# Altium schematic symbol library 3D_MIG_Controller.SCHLIB: 528 symbols (part 4 of 6)
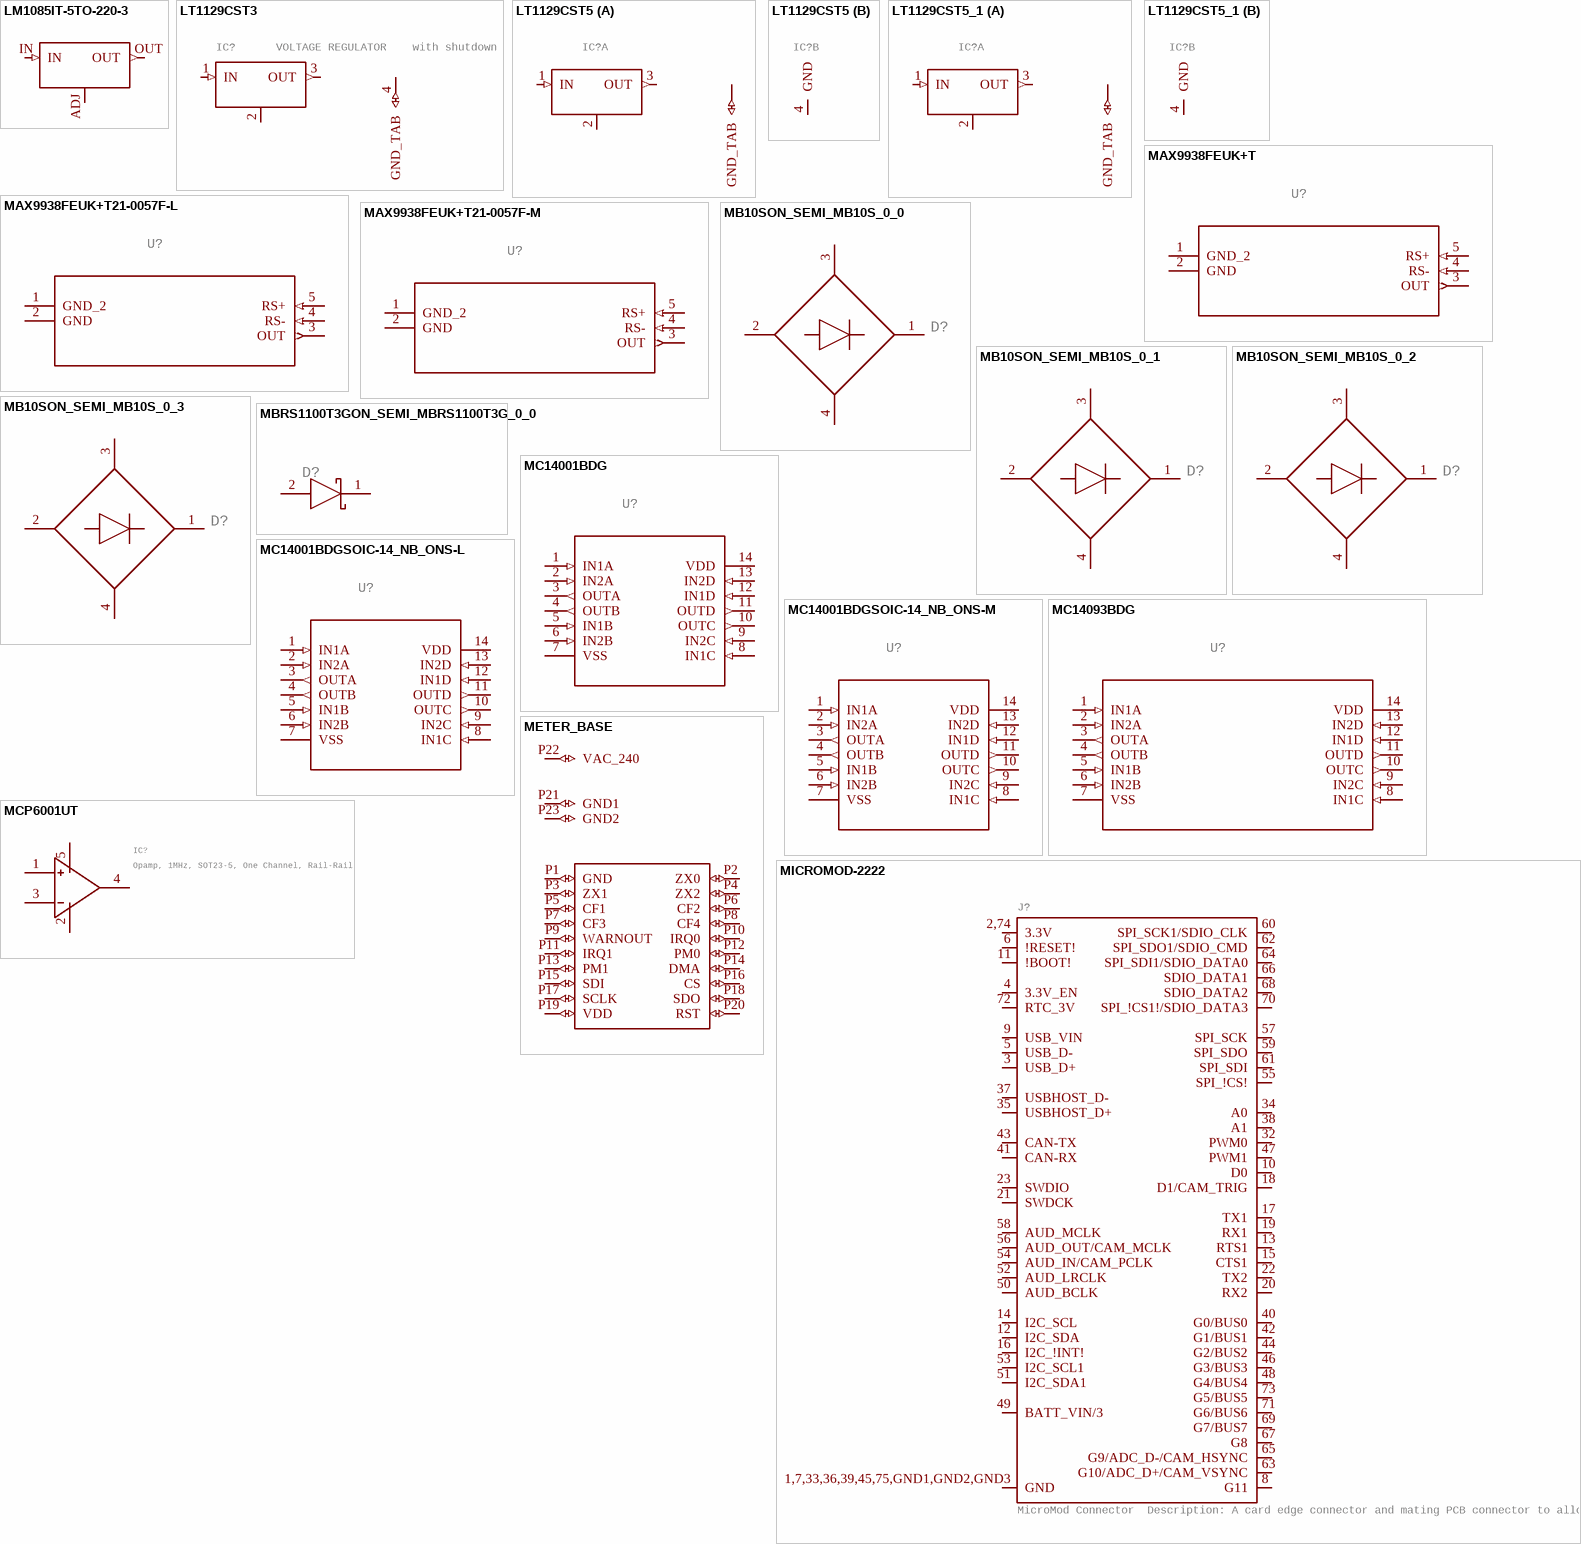
[diagram p35: symbols LM1085IT-5TO-220-3 to MICROMOD-2222]

## MB10SON_SEMI_MB10S_0_0
designator D?, comment Bridge Rectifier Single Phase Standard 1kV Surface Mount 4-SOIC  (value not drawn)
GateName_1: G$0; SymbolName_1: ON_SEMI_MB10S_0_0; DeviceSetName: MB10S; CAPACITANCE: 13pF; CENTROID_NOT_SPECIFIED: No; DEVICE_CLASS_L1: Discrete Semiconductors; DEVICE_CLASS_L2: Diodes; DEVICE_CLASS_L3: Rectifier Diodes; FORWARD_CURRENT: 0.8A; LEAD_FREE: Yes; MAX_JUNCTION_TEMP: +150°C; MAX_REPETITIVE_REVERSE_VOLTAGE: 1000V; MAX_SURGE_FORWARD_CURRENT: 35A; MF: ON Semi; MFG_PACKAGE_IDENT: 751EP; MFG_PACKAGE_IDENT_COMPONENT_ID: f1ce8039da724604; MFG_PACKAGE_IDENT_REV: O; PEAK_REVERSE_CURRENT: 5uA; PREFIX: D; STANDOFF_HEIGHT: 0.05mm; TEMPERATURE_RANGE_LOW: -55°C; VERIFICATION_VERSION: 0.0.0.3; DeviceName: ON_SEMI_MB10S_0_0; LibraryName: 3D_MIG_Controller; Package: ON_SEMI_MB10S_0; AUTOMOTIVE: No; DATASHEET: https://www.onsemi.com/pub/Collateral/MB10S-D.PDF; DIGIKEY_DESCRIPTION: BRIDGE RECT 1P 1KV 500MA 4SOIC; DIGIKEY_PART_NUMBER: MB10SCT-ND; FOOTPRINT_PARAMETERS_1: {"fp_type":"SOIC_wide","params":{"N":{"nom":4,"long name":"Number of leads","min":null,"max":null,"short name":"N","type":"count"},"A":{"nom":false,"long name":"Height","min":2400000,"max":2900000,"short name":"A","type":"measurement"},"A1":{"nom":false,"long name":"Package clearance","min":50000,"max":200000,"short name":"A1","type":"measurement"},"A2":{"nom":false,"long name":"Package height","min":2200000,"max":2700000,"short name":"A2","type":"measurement"},"D":{"nom":false,"long name":"Package length","min":4500000,"max":4950000,"short name":"D","type":"measurement"},"E":{"nom":false,"long name":"Width w/ leads","min":6400000,"max":7000000,"short name":"E","type":"measurement"},"E1":{"nom":false,"long name":"Package width","min":3600000,"max":4200000,"short name":"E1","type":"measurement"},"B":{"nom":false,"long name":"Lead width","min":430000,"max":840000,"short name":"B","type":"measurement"},"C":{"nom":false,"long name":"Lead thickness","min":150000,"max":410000,"short name":"C","type":"measurement"},"e":{"nom":2540000,"long name":"Lead pitch","min":null,"max":null,"short name":"e","type":"measurement"},"L":{"nom":false,"long name":"Lead foot length","min":480000,"max":1100000,"short name":"L","type":"measurement"},"PHI":{"nom":false,"long name":"Lead foot angle","min":0,"max":8000000,"short name":"PHI","type":"measurement"},"HT":{"default":"No","long name":"Thermal pad","type":"multichoiceparent","short name":"HT","children":[]},"offset x":{"nom":0,"long name":"X Center offset","min":null,"max":null,"short name":"offset x","type":"measurement"},"offset y":{"nom":0,"long name":"Y Center offset","min":null,"max":null,"short name":"offset y","type":"measurement"},"LS":{"default":"Rounded rectangle","long name":"Land shape","type":"multichoice","short name":"LS"},"LS1":{"default":"Rectangle","long name":"Land shape (Pin 1)","type":"multichoice","short name":"LS1"},"solder toe":{"nom":550000,"long name":"Solder fillet (toe)","min":null,"max":null,"short name":"solder toe","type":"fixedmeasurement"},"solder heel":{"nom":450000,"long name":"Solder fillet (heel)","min":null,"max":null,"short name":"solder heel","type":"fixedmeasurement"},"solder side":{"nom":50000,"long name":"Solder fillet (side)","min":null,"max":null,"short name":"solder side","type":"fixedmeasurement"},"courtyard":{"nom":500000,"long name":"Courtyard","min":null,"max":null,"short name":"courtyard","type":"fixedmeasurement"},"SF":{"default":"A","long name":"Packing level","type":"multichoiceparent","short name":"SF","help":"http://support.upverter.com/customer/portal/articles/978783-what-is-a-footprint-packing-level","children":["solder toe","solder heel","solder side","courtyard"]}}}; FOOTPRINT_PARAMETERS_2: {"fp_type":"SOIC_wide","params":{"N":{"nom":4,"long name":"Number of leads","min":null,"max":null,"short name":"N","type":"count"},"A":{"nom":false,"long name":"Height","min":2400000,"max":2900000,"short name":"A","type":"measurement"},"A1":{"nom":false,"long name":"Package clearance","min":50000,"max":200000,"short name":"A1","type":"measurement"},"A2":{"nom":false,"long name":"Package height","min":2200000,"max":2700000,"short name":"A2","type":"measurement"},"D":{"nom":false,"long name":"Package length","min":4500000,"max":4950000,"short name":"D","type":"measurement"},"E":{"nom":false,"long name":"Width w/ leads","min":6400000,"max":7000000,"short name":"E","type":"measurement"},"E1":{"nom":false,"long name":"Package width","min":3600000,"max":4200000,"short name":"E1","type":"measurement"},"B":{"nom":false,"long name":"Lead width","min":430000,"max":840000,"short name":"B","type":"measurement"},"C":{"nom":false,"long name":"Lead thickness","min":150000,"max":410000,"short name":"C","type":"measurement"},"e":{"nom":2540000,"long name":"Lead pitch","min":null,"max":null,"short name":"e","type":"measurement"},"L":{"nom":false,"long name":"Lead foot length","min":480000,"max":1100000,"short name":"L","type":"measurement"},"PHI":{"nom":false,"long name":"Lead foot angle","min":0,"max":8000000,"short name":"PHI","type":"measurement"},"HT":{"default":"No","long name":"Thermal pad","type":"multichoiceparent","short name":"HT","children":[]},"offset x":{"nom":0,"long name":"X Center offset","min":null,"max":null,"short name":"offset x","type":"measurement"},"offset y":{"nom":0,"long name":"Y Center offset","min":null,"max":null,"short name":"offset y","type":"measurement"},"LS":{"default":"Rounded rectangle","long name":"Land shape","type":"multichoice","short name":"LS"},"LS1":{"default":"Rectangle","long name":"Land shape (Pin 1)","type":"multichoice","short name":"LS1"},"solder toe":{"nom":350000,"long name":"Solder fillet (toe)","min":null,"max":null,"short name":"solder toe","type":"fixedmeasurement"},"solder heel":{"nom":350000,"long name":"Solder fillet (heel)","min":null,"max":null,"short name":"solder heel","type":"fixedmeasurement"},"solder side":{"nom":30000,"long name":"Solder fillet (side)","min":null,"max":null,"short name":"solder side","type":"fixedmeasurement"},"courtyard":{"nom":250000,"long name":"Courtyard","min":null,"max":null,"short name":"courtyard","type":"fixedmeasurement"},"SF":{"default":"B","long name":"Packing level","type":"multichoiceparent","short name":"SF","help":"http://support.upverter.com/customer/portal/articles/978783-what-is-a-footprint-packing-level","children":["solder toe","solder heel","solder side","courtyard"]}}}; FOOTPRINT_PARAMETERS_3: {"fp_type":"SOIC_wide","params":{"N":{"nom":4,"long name":"Number of leads","min":null,"max":null,"short name":"N","type":"count"},"A":{"nom":false,"long name":"Height","min":2400000,"max":2900000,"short name":"A","type":"measurement"},"A1":{"nom":false,"long name":"Package clearance","min":50000,"max":200000,"short name":"A1","type":"measurement"},"A2":{"nom":false,"long name":"Package height","min":2200000,"max":2700000,"short name":"A2","type":"measurement"},"D":{"nom":false,"long name":"Package length","min":4500000,"max":4950000,"short name":"D","type":"measurement"},"E":{"nom":false,"long name":"Width w/ leads","min":6400000,"max":7000000,"short name":"E","type":"measurement"},"E1":{"nom":false,"long name":"Package width","min":3600000,"max":4200000,"short name":"E1","type":"measurement"},"B":{"nom":false,"long name":"Lead width","min":430000,"max":840000,"short name":"B","type":"measurement"},"C":{"nom":false,"long name":"Lead thickness","min":150000,"max":410000,"short name":"C","type":"measurement"},"e":{"nom":2540000,"long name":"Lead pitch","min":null,"max":null,"short name":"e","type":"measurement"},"L":{"nom":false,"long name":"Lead foot length","min":480000,"max":1100000,"short name":"L","type":"measurement"},"PHI":{"nom":false,"long name":"Lead foot angle","min":0,"max":8000000,"short name":"PHI","type":"measurement"},"HT":{"default":"No","long name":"Thermal pad","type":"multichoiceparent","short name":"HT","children":[]},"offset x":{"nom":0,"long name":"X Center offset","min":null,"max":null,"short name":"offset x","type":"measurement"},"offset y":{"nom":0,"long name":"Y Center offset","min":null,"max":null,"short name":"offset y","type":"measurement"},"LS":{"default":"Rounded rectangle","long name":"Land shape","type":"multichoice","short name":"LS"},"LS1":{"default":"Rectangle","long name":"Land shape (Pin 1)","type":"multichoice","short name":"LS1"},"solder toe":{"nom":150000,"long name":"Solder fillet (toe)","min":null,"max":null,"short name":"solder toe","type":"fixedmeasurement"},"solder heel":{"nom":250000,"long name":"Solder fillet (heel)","min":null,"max":null,"short name":"solder heel","type":"fixedmeasurement"},"solder side":{"nom":10000,"long name":"Solder fillet (side)","min":null,"max":null,"short name":"solder side","type":"fixedmeasurement"},"courtyard":{"nom":100000,"long name":"Courtyard","min":null,"max":null,"short name":"courtyard","type":"fixedmeasurement"},"SF":{"default":"C","long name":"Packing level","type":"multichoiceparent","short name":"SF","help":"http://support.upverter.com/customer/portal/articles/978783-what-is-a-footprint-packing-level","children":["solder toe","solder heel","solder side","courtyard"]}}}; FOOTPRINT_URL: https://www.onsemi.com/pub/Collateral/751EP.PDF; FOOTPRINT_VARIANT_NAME_0: Recommended_Land_Pattern; FOOTPRINT_VARIANT_NAME_1: IPC_A; FOOTPRINT_VARIANT_NAME_2: IPC_B; FOOTPRINT_VARIANT_NAME_3: IPC_C; HEIGHT: 2.9mm; MFG_PACKAGE_IDENT_DATE: 09/2016; MOUSER_PART_NUMBER: 512-MB10S; MPN: MB10S; PACKAGE: SOIC4; REVERSE_VOLTAGE: 1000V; ROHS: Yes; TEMPERATURE_RANGE_HIGH: +150°C
footprint ON_SEMI_MB10S_0
pins: 1 +, 2 -, 3 1_~, 4 2_~

## MB10SON_SEMI_MB10S_0_1
designator D?, comment Bridge Rectifier Single Phase Standard 1kV Surface Mount 4-SOIC  (value not drawn)
GateName_1: G$0; SymbolName_1: ON_SEMI_MB10S_0_0; DeviceName: ON_SEMI_MB10S_0_1; DeviceSetName: MB10S; CAPACITANCE: 13pF; CENTROID_NOT_SPECIFIED: No; DEVICE_CLASS_L1: Discrete Semiconductors; DEVICE_CLASS_L2: Diodes; DEVICE_CLASS_L3: Rectifier Diodes; FORWARD_CURRENT: 0.8A; LEAD_FREE: Yes; MAX_JUNCTION_TEMP: +150°C; MAX_REPETITIVE_REVERSE_VOLTAGE: 1000V; MAX_SURGE_FORWARD_CURRENT: 35A; MF: ON Semi; MFG_PACKAGE_IDENT: 751EP; MFG_PACKAGE_IDENT_COMPONENT_ID: f1ce8039da724604; MFG_PACKAGE_IDENT_REV: O; PEAK_REVERSE_CURRENT: 5uA; PREFIX: D; STANDOFF_HEIGHT: 0.05mm; TEMPERATURE_RANGE_LOW: -55°C; VERIFICATION_VERSION: 0.0.0.3; LibraryName: 3D_MIG_Controller; Package: ON_SEMI_MB10S_1; AUTOMOTIVE: No; DATASHEET: https://www.onsemi.com/pub/Collateral/MB10S-D.PDF; DIGIKEY_DESCRIPTION: BRIDGE RECT 1P 1KV 500MA 4SOIC; DIGIKEY_PART_NUMBER: MB10SCT-ND; FOOTPRINT_PARAMETERS_1: {"fp_type":"SOIC_wide","params":{"N":{"nom":4,"long name":"Number of leads","min":null,"max":null,"short name":"N","type":"count"},"A":{"nom":false,"long name":"Height","min":2400000,"max":2900000,"short name":"A","type":"measurement"},"A1":{"nom":false,"long name":"Package clearance","min":50000,"max":200000,"short name":"A1","type":"measurement"},"A2":{"nom":false,"long name":"Package height","min":2200000,"max":2700000,"short name":"A2","type":"measurement"},"D":{"nom":false,"long name":"Package length","min":4500000,"max":4950000,"short name":"D","type":"measurement"},"E":{"nom":false,"long name":"Width w/ leads","min":6400000,"max":7000000,"short name":"E","type":"measurement"},"E1":{"nom":false,"long name":"Package width","min":3600000,"max":4200000,"short name":"E1","type":"measurement"},"B":{"nom":false,"long name":"Lead width","min":430000,"max":840000,"short name":"B","type":"measurement"},"C":{"nom":false,"long name":"Lead thickness","min":150000,"max":410000,"short name":"C","type":"measurement"},"e":{"nom":2540000,"long name":"Lead pitch","min":null,"max":null,"short name":"e","type":"measurement"},"L":{"nom":false,"long name":"Lead foot length","min":480000,"max":1100000,"short name":"L","type":"measurement"},"PHI":{"nom":false,"long name":"Lead foot angle","min":0,"max":8000000,"short name":"PHI","type":"measurement"},"HT":{"default":"No","long name":"Thermal pad","type":"multichoiceparent","short name":"HT","children":[]},"offset x":{"nom":0,"long name":"X Center offset","min":null,"max":null,"short name":"offset x","type":"measurement"},"offset y":{"nom":0,"long name":"Y Center offset","min":null,"max":null,"short name":"offset y","type":"measurement"},"LS":{"default":"Rounded rectangle","long name":"Land shape","type":"multichoice","short name":"LS"},"LS1":{"default":"Rectangle","long name":"Land shape (Pin 1)","type":"multichoice","short name":"LS1"},"solder toe":{"nom":550000,"long name":"Solder fillet (toe)","min":null,"max":null,"short name":"solder toe","type":"fixedmeasurement"},"solder heel":{"nom":450000,"long name":"Solder fillet (heel)","min":null,"max":null,"short name":"solder heel","type":"fixedmeasurement"},"solder side":{"nom":50000,"long name":"Solder fillet (side)","min":null,"max":null,"short name":"solder side","type":"fixedmeasurement"},"courtyard":{"nom":500000,"long name":"Courtyard","min":null,"max":null,"short name":"courtyard","type":"fixedmeasurement"},"SF":{"default":"A","long name":"Packing level","type":"multichoiceparent","short name":"SF","help":"http://support.upverter.com/customer/portal/articles/978783-what-is-a-footprint-packing-level","children":["solder toe","solder heel","solder side","courtyard"]}}}; FOOTPRINT_PARAMETERS_2: {"fp_type":"SOIC_wide","params":{"N":{"nom":4,"long name":"Number of leads","min":null,"max":null,"short name":"N","type":"count"},"A":{"nom":false,"long name":"Height","min":2400000,"max":2900000,"short name":"A","type":"measurement"},"A1":{"nom":false,"long name":"Package clearance","min":50000,"max":200000,"short name":"A1","type":"measurement"},"A2":{"nom":false,"long name":"Package height","min":2200000,"max":2700000,"short name":"A2","type":"measurement"},"D":{"nom":false,"long name":"Package length","min":4500000,"max":4950000,"short name":"D","type":"measurement"},"E":{"nom":false,"long name":"Width w/ leads","min":6400000,"max":7000000,"short name":"E","type":"measurement"},"E1":{"nom":false,"long name":"Package width","min":3600000,"max":4200000,"short name":"E1","type":"measurement"},"B":{"nom":false,"long name":"Lead width","min":430000,"max":840000,"short name":"B","type":"measurement"},"C":{"nom":false,"long name":"Lead thickness","min":150000,"max":410000,"short name":"C","type":"measurement"},"e":{"nom":2540000,"long name":"Lead pitch","min":null,"max":null,"short name":"e","type":"measurement"},"L":{"nom":false,"long name":"Lead foot length","min":480000,"max":1100000,"short name":"L","type":"measurement"},"PHI":{"nom":false,"long name":"Lead foot angle","min":0,"max":8000000,"short name":"PHI","type":"measurement"},"HT":{"default":"No","long name":"Thermal pad","type":"multichoiceparent","short name":"HT","children":[]},"offset x":{"nom":0,"long name":"X Center offset","min":null,"max":null,"short name":"offset x","type":"measurement"},"offset y":{"nom":0,"long name":"Y Center offset","min":null,"max":null,"short name":"offset y","type":"measurement"},"LS":{"default":"Rounded rectangle","long name":"Land shape","type":"multichoice","short name":"LS"},"LS1":{"default":"Rectangle","long name":"Land shape (Pin 1)","type":"multichoice","short name":"LS1"},"solder toe":{"nom":350000,"long name":"Solder fillet (toe)","min":null,"max":null,"short name":"solder toe","type":"fixedmeasurement"},"solder heel":{"nom":350000,"long name":"Solder fillet (heel)","min":null,"max":null,"short name":"solder heel","type":"fixedmeasurement"},"solder side":{"nom":30000,"long name":"Solder fillet (side)","min":null,"max":null,"short name":"solder side","type":"fixedmeasurement"},"courtyard":{"nom":250000,"long name":"Courtyard","min":null,"max":null,"short name":"courtyard","type":"fixedmeasurement"},"SF":{"default":"B","long name":"Packing level","type":"multichoiceparent","short name":"SF","help":"http://support.upverter.com/customer/portal/articles/978783-what-is-a-footprint-packing-level","children":["solder toe","solder heel","solder side","courtyard"]}}}; FOOTPRINT_PARAMETERS_3: {"fp_type":"SOIC_wide","params":{"N":{"nom":4,"long name":"Number of leads","min":null,"max":null,"short name":"N","type":"count"},"A":{"nom":false,"long name":"Height","min":2400000,"max":2900000,"short name":"A","type":"measurement"},"A1":{"nom":false,"long name":"Package clearance","min":50000,"max":200000,"short name":"A1","type":"measurement"},"A2":{"nom":false,"long name":"Package height","min":2200000,"max":2700000,"short name":"A2","type":"measurement"},"D":{"nom":false,"long name":"Package length","min":4500000,"max":4950000,"short name":"D","type":"measurement"},"E":{"nom":false,"long name":"Width w/ leads","min":6400000,"max":7000000,"short name":"E","type":"measurement"},"E1":{"nom":false,"long name":"Package width","min":3600000,"max":4200000,"short name":"E1","type":"measurement"},"B":{"nom":false,"long name":"Lead width","min":430000,"max":840000,"short name":"B","type":"measurement"},"C":{"nom":false,"long name":"Lead thickness","min":150000,"max":410000,"short name":"C","type":"measurement"},"e":{"nom":2540000,"long name":"Lead pitch","min":null,"max":null,"short name":"e","type":"measurement"},"L":{"nom":false,"long name":"Lead foot length","min":480000,"max":1100000,"short name":"L","type":"measurement"},"PHI":{"nom":false,"long name":"Lead foot angle","min":0,"max":8000000,"short name":"PHI","type":"measurement"},"HT":{"default":"No","long name":"Thermal pad","type":"multichoiceparent","short name":"HT","children":[]},"offset x":{"nom":0,"long name":"X Center offset","min":null,"max":null,"short name":"offset x","type":"measurement"},"offset y":{"nom":0,"long name":"Y Center offset","min":null,"max":null,"short name":"offset y","type":"measurement"},"LS":{"default":"Rounded rectangle","long name":"Land shape","type":"multichoice","short name":"LS"},"LS1":{"default":"Rectangle","long name":"Land shape (Pin 1)","type":"multichoice","short name":"LS1"},"solder toe":{"nom":150000,"long name":"Solder fillet (toe)","min":null,"max":null,"short name":"solder toe","type":"fixedmeasurement"},"solder heel":{"nom":250000,"long name":"Solder fillet (heel)","min":null,"max":null,"short name":"solder heel","type":"fixedmeasurement"},"solder side":{"nom":10000,"long name":"Solder fillet (side)","min":null,"max":null,"short name":"solder side","type":"fixedmeasurement"},"courtyard":{"nom":100000,"long name":"Courtyard","min":null,"max":null,"short name":"courtyard","type":"fixedmeasurement"},"SF":{"default":"C","long name":"Packing level","type":"multichoiceparent","short name":"SF","help":"http://support.upverter.com/customer/portal/articles/978783-what-is-a-footprint-packing-level","children":["solder toe","solder heel","solder side","courtyard"]}}}; FOOTPRINT_URL: https://www.onsemi.com/pub/Collateral/751EP.PDF; FOOTPRINT_VARIANT_NAME_0: Recommended_Land_Pattern; FOOTPRINT_VARIANT_NAME_1: IPC_A; FOOTPRINT_VARIANT_NAME_2: IPC_B; FOOTPRINT_VARIANT_NAME_3: IPC_C; HEIGHT: 2.9mm; MFG_PACKAGE_IDENT_DATE: 09/2016; MOUSER_PART_NUMBER: 512-MB10S; MPN: MB10S; PACKAGE: SOIC4; REVERSE_VOLTAGE: 1000V; ROHS: Yes; TEMPERATURE_RANGE_HIGH: +150°C
footprint ON_SEMI_MB10S_1
pins: 1 +, 2 -, 3 1_~, 4 2_~

## MB10SON_SEMI_MB10S_0_2
designator D?, comment Bridge Rectifier Single Phase Standard 1kV Surface Mount 4-SOIC  (value not drawn)
GateName_1: G$0; SymbolName_1: ON_SEMI_MB10S_0_0; DeviceName: ON_SEMI_MB10S_0_2; DeviceSetName: MB10S; CAPACITANCE: 13pF; CENTROID_NOT_SPECIFIED: No; DEVICE_CLASS_L1: Discrete Semiconductors; DEVICE_CLASS_L2: Diodes; DEVICE_CLASS_L3: Rectifier Diodes; FORWARD_CURRENT: 0.8A; LEAD_FREE: Yes; MAX_JUNCTION_TEMP: +150°C; MAX_REPETITIVE_REVERSE_VOLTAGE: 1000V; MAX_SURGE_FORWARD_CURRENT: 35A; MF: ON Semi; MFG_PACKAGE_IDENT: 751EP; MFG_PACKAGE_IDENT_COMPONENT_ID: f1ce8039da724604; MFG_PACKAGE_IDENT_REV: O; PEAK_REVERSE_CURRENT: 5uA; PREFIX: D; STANDOFF_HEIGHT: 0.05mm; TEMPERATURE_RANGE_LOW: -55°C; VERIFICATION_VERSION: 0.0.0.3; LibraryName: 3D_MIG_Controller; Package: ON_SEMI_MB10S_2; AUTOMOTIVE: No; DATASHEET: https://www.onsemi.com/pub/Collateral/MB10S-D.PDF; DIGIKEY_DESCRIPTION: BRIDGE RECT 1P 1KV 500MA 4SOIC; DIGIKEY_PART_NUMBER: MB10SCT-ND; FOOTPRINT_PARAMETERS_1: {"fp_type":"SOIC_wide","params":{"N":{"nom":4,"long name":"Number of leads","min":null,"max":null,"short name":"N","type":"count"},"A":{"nom":false,"long name":"Height","min":2400000,"max":2900000,"short name":"A","type":"measurement"},"A1":{"nom":false,"long name":"Package clearance","min":50000,"max":200000,"short name":"A1","type":"measurement"},"A2":{"nom":false,"long name":"Package height","min":2200000,"max":2700000,"short name":"A2","type":"measurement"},"D":{"nom":false,"long name":"Package length","min":4500000,"max":4950000,"short name":"D","type":"measurement"},"E":{"nom":false,"long name":"Width w/ leads","min":6400000,"max":7000000,"short name":"E","type":"measurement"},"E1":{"nom":false,"long name":"Package width","min":3600000,"max":4200000,"short name":"E1","type":"measurement"},"B":{"nom":false,"long name":"Lead width","min":430000,"max":840000,"short name":"B","type":"measurement"},"C":{"nom":false,"long name":"Lead thickness","min":150000,"max":410000,"short name":"C","type":"measurement"},"e":{"nom":2540000,"long name":"Lead pitch","min":null,"max":null,"short name":"e","type":"measurement"},"L":{"nom":false,"long name":"Lead foot length","min":480000,"max":1100000,"short name":"L","type":"measurement"},"PHI":{"nom":false,"long name":"Lead foot angle","min":0,"max":8000000,"short name":"PHI","type":"measurement"},"HT":{"default":"No","long name":"Thermal pad","type":"multichoiceparent","short name":"HT","children":[]},"offset x":{"nom":0,"long name":"X Center offset","min":null,"max":null,"short name":"offset x","type":"measurement"},"offset y":{"nom":0,"long name":"Y Center offset","min":null,"max":null,"short name":"offset y","type":"measurement"},"LS":{"default":"Rounded rectangle","long name":"Land shape","type":"multichoice","short name":"LS"},"LS1":{"default":"Rectangle","long name":"Land shape (Pin 1)","type":"multichoice","short name":"LS1"},"solder toe":{"nom":550000,"long name":"Solder fillet (toe)","min":null,"max":null,"short name":"solder toe","type":"fixedmeasurement"},"solder heel":{"nom":450000,"long name":"Solder fillet (heel)","min":null,"max":null,"short name":"solder heel","type":"fixedmeasurement"},"solder side":{"nom":50000,"long name":"Solder fillet (side)","min":null,"max":null,"short name":"solder side","type":"fixedmeasurement"},"courtyard":{"nom":500000,"long name":"Courtyard","min":null,"max":null,"short name":"courtyard","type":"fixedmeasurement"},"SF":{"default":"A","long name":"Packing level","type":"multichoiceparent","short name":"SF","help":"http://support.upverter.com/customer/portal/articles/978783-what-is-a-footprint-packing-level","children":["solder toe","solder heel","solder side","courtyard"]}}}; FOOTPRINT_PARAMETERS_2: {"fp_type":"SOIC_wide","params":{"N":{"nom":4,"long name":"Number of leads","min":null,"max":null,"short name":"N","type":"count"},"A":{"nom":false,"long name":"Height","min":2400000,"max":2900000,"short name":"A","type":"measurement"},"A1":{"nom":false,"long name":"Package clearance","min":50000,"max":200000,"short name":"A1","type":"measurement"},"A2":{"nom":false,"long name":"Package height","min":2200000,"max":2700000,"short name":"A2","type":"measurement"},"D":{"nom":false,"long name":"Package length","min":4500000,"max":4950000,"short name":"D","type":"measurement"},"E":{"nom":false,"long name":"Width w/ leads","min":6400000,"max":7000000,"short name":"E","type":"measurement"},"E1":{"nom":false,"long name":"Package width","min":3600000,"max":4200000,"short name":"E1","type":"measurement"},"B":{"nom":false,"long name":"Lead width","min":430000,"max":840000,"short name":"B","type":"measurement"},"C":{"nom":false,"long name":"Lead thickness","min":150000,"max":410000,"short name":"C","type":"measurement"},"e":{"nom":2540000,"long name":"Lead pitch","min":null,"max":null,"short name":"e","type":"measurement"},"L":{"nom":false,"long name":"Lead foot length","min":480000,"max":1100000,"short name":"L","type":"measurement"},"PHI":{"nom":false,"long name":"Lead foot angle","min":0,"max":8000000,"short name":"PHI","type":"measurement"},"HT":{"default":"No","long name":"Thermal pad","type":"multichoiceparent","short name":"HT","children":[]},"offset x":{"nom":0,"long name":"X Center offset","min":null,"max":null,"short name":"offset x","type":"measurement"},"offset y":{"nom":0,"long name":"Y Center offset","min":null,"max":null,"short name":"offset y","type":"measurement"},"LS":{"default":"Rounded rectangle","long name":"Land shape","type":"multichoice","short name":"LS"},"LS1":{"default":"Rectangle","long name":"Land shape (Pin 1)","type":"multichoice","short name":"LS1"},"solder toe":{"nom":350000,"long name":"Solder fillet (toe)","min":null,"max":null,"short name":"solder toe","type":"fixedmeasurement"},"solder heel":{"nom":350000,"long name":"Solder fillet (heel)","min":null,"max":null,"short name":"solder heel","type":"fixedmeasurement"},"solder side":{"nom":30000,"long name":"Solder fillet (side)","min":null,"max":null,"short name":"solder side","type":"fixedmeasurement"},"courtyard":{"nom":250000,"long name":"Courtyard","min":null,"max":null,"short name":"courtyard","type":"fixedmeasurement"},"SF":{"default":"B","long name":"Packing level","type":"multichoiceparent","short name":"SF","help":"http://support.upverter.com/customer/portal/articles/978783-what-is-a-footprint-packing-level","children":["solder toe","solder heel","solder side","courtyard"]}}}; FOOTPRINT_PARAMETERS_3: {"fp_type":"SOIC_wide","params":{"N":{"nom":4,"long name":"Number of leads","min":null,"max":null,"short name":"N","type":"count"},"A":{"nom":false,"long name":"Height","min":2400000,"max":2900000,"short name":"A","type":"measurement"},"A1":{"nom":false,"long name":"Package clearance","min":50000,"max":200000,"short name":"A1","type":"measurement"},"A2":{"nom":false,"long name":"Package height","min":2200000,"max":2700000,"short name":"A2","type":"measurement"},"D":{"nom":false,"long name":"Package length","min":4500000,"max":4950000,"short name":"D","type":"measurement"},"E":{"nom":false,"long name":"Width w/ leads","min":6400000,"max":7000000,"short name":"E","type":"measurement"},"E1":{"nom":false,"long name":"Package width","min":3600000,"max":4200000,"short name":"E1","type":"measurement"},"B":{"nom":false,"long name":"Lead width","min":430000,"max":840000,"short name":"B","type":"measurement"},"C":{"nom":false,"long name":"Lead thickness","min":150000,"max":410000,"short name":"C","type":"measurement"},"e":{"nom":2540000,"long name":"Lead pitch","min":null,"max":null,"short name":"e","type":"measurement"},"L":{"nom":false,"long name":"Lead foot length","min":480000,"max":1100000,"short name":"L","type":"measurement"},"PHI":{"nom":false,"long name":"Lead foot angle","min":0,"max":8000000,"short name":"PHI","type":"measurement"},"HT":{"default":"No","long name":"Thermal pad","type":"multichoiceparent","short name":"HT","children":[]},"offset x":{"nom":0,"long name":"X Center offset","min":null,"max":null,"short name":"offset x","type":"measurement"},"offset y":{"nom":0,"long name":"Y Center offset","min":null,"max":null,"short name":"offset y","type":"measurement"},"LS":{"default":"Rounded rectangle","long name":"Land shape","type":"multichoice","short name":"LS"},"LS1":{"default":"Rectangle","long name":"Land shape (Pin 1)","type":"multichoice","short name":"LS1"},"solder toe":{"nom":150000,"long name":"Solder fillet (toe)","min":null,"max":null,"short name":"solder toe","type":"fixedmeasurement"},"solder heel":{"nom":250000,"long name":"Solder fillet (heel)","min":null,"max":null,"short name":"solder heel","type":"fixedmeasurement"},"solder side":{"nom":10000,"long name":"Solder fillet (side)","min":null,"max":null,"short name":"solder side","type":"fixedmeasurement"},"courtyard":{"nom":100000,"long name":"Courtyard","min":null,"max":null,"short name":"courtyard","type":"fixedmeasurement"},"SF":{"default":"C","long name":"Packing level","type":"multichoiceparent","short name":"SF","help":"http://support.upverter.com/customer/portal/articles/978783-what-is-a-footprint-packing-level","children":["solder toe","solder heel","solder side","courtyard"]}}}; FOOTPRINT_URL: https://www.onsemi.com/pub/Collateral/751EP.PDF; FOOTPRINT_VARIANT_NAME_0: Recommended_Land_Pattern; FOOTPRINT_VARIANT_NAME_1: IPC_A; FOOTPRINT_VARIANT_NAME_2: IPC_B; FOOTPRINT_VARIANT_NAME_3: IPC_C; HEIGHT: 2.9mm; MFG_PACKAGE_IDENT_DATE: 09/2016; MOUSER_PART_NUMBER: 512-MB10S; MPN: MB10S; PACKAGE: SOIC4; REVERSE_VOLTAGE: 1000V; ROHS: Yes; TEMPERATURE_RANGE_HIGH: +150°C
footprint ON_SEMI_MB10S_2
pins: 1 +, 2 -, 3 1_~, 4 2_~

## MB10SON_SEMI_MB10S_0_3
designator D?, comment Bridge Rectifier Single Phase Standard 1kV Surface Mount 4-SOIC  (value not drawn)
GateName_1: G$0; SymbolName_1: ON_SEMI_MB10S_0_0; DeviceName: ON_SEMI_MB10S_0_3; DeviceSetName: MB10S; CAPACITANCE: 13pF; CENTROID_NOT_SPECIFIED: No; DEVICE_CLASS_L1: Discrete Semiconductors; DEVICE_CLASS_L2: Diodes; DEVICE_CLASS_L3: Rectifier Diodes; FORWARD_CURRENT: 0.8A; LEAD_FREE: Yes; MAX_JUNCTION_TEMP: +150°C; MAX_REPETITIVE_REVERSE_VOLTAGE: 1000V; MAX_SURGE_FORWARD_CURRENT: 35A; MF: ON Semi; MFG_PACKAGE_IDENT: 751EP; MFG_PACKAGE_IDENT_COMPONENT_ID: f1ce8039da724604; MFG_PACKAGE_IDENT_REV: O; PEAK_REVERSE_CURRENT: 5uA; PREFIX: D; STANDOFF_HEIGHT: 0.05mm; TEMPERATURE_RANGE_LOW: -55°C; VERIFICATION_VERSION: 0.0.0.3; LibraryName: 3D_MIG_Controller; Package: ON_SEMI_MB10S_3; AUTOMOTIVE: No; DATASHEET: https://www.onsemi.com/pub/Collateral/MB10S-D.PDF; DIGIKEY_DESCRIPTION: BRIDGE RECT 1P 1KV 500MA 4SOIC; DIGIKEY_PART_NUMBER: MB10SCT-ND; FOOTPRINT_PARAMETERS_1: {"fp_type":"SOIC_wide","params":{"N":{"nom":4,"long name":"Number of leads","min":null,"max":null,"short name":"N","type":"count"},"A":{"nom":false,"long name":"Height","min":2400000,"max":2900000,"short name":"A","type":"measurement"},"A1":{"nom":false,"long name":"Package clearance","min":50000,"max":200000,"short name":"A1","type":"measurement"},"A2":{"nom":false,"long name":"Package height","min":2200000,"max":2700000,"short name":"A2","type":"measurement"},"D":{"nom":false,"long name":"Package length","min":4500000,"max":4950000,"short name":"D","type":"measurement"},"E":{"nom":false,"long name":"Width w/ leads","min":6400000,"max":7000000,"short name":"E","type":"measurement"},"E1":{"nom":false,"long name":"Package width","min":3600000,"max":4200000,"short name":"E1","type":"measurement"},"B":{"nom":false,"long name":"Lead width","min":430000,"max":840000,"short name":"B","type":"measurement"},"C":{"nom":false,"long name":"Lead thickness","min":150000,"max":410000,"short name":"C","type":"measurement"},"e":{"nom":2540000,"long name":"Lead pitch","min":null,"max":null,"short name":"e","type":"measurement"},"L":{"nom":false,"long name":"Lead foot length","min":480000,"max":1100000,"short name":"L","type":"measurement"},"PHI":{"nom":false,"long name":"Lead foot angle","min":0,"max":8000000,"short name":"PHI","type":"measurement"},"HT":{"default":"No","long name":"Thermal pad","type":"multichoiceparent","short name":"HT","children":[]},"offset x":{"nom":0,"long name":"X Center offset","min":null,"max":null,"short name":"offset x","type":"measurement"},"offset y":{"nom":0,"long name":"Y Center offset","min":null,"max":null,"short name":"offset y","type":"measurement"},"LS":{"default":"Rounded rectangle","long name":"Land shape","type":"multichoice","short name":"LS"},"LS1":{"default":"Rectangle","long name":"Land shape (Pin 1)","type":"multichoice","short name":"LS1"},"solder toe":{"nom":550000,"long name":"Solder fillet (toe)","min":null,"max":null,"short name":"solder toe","type":"fixedmeasurement"},"solder heel":{"nom":450000,"long name":"Solder fillet (heel)","min":null,"max":null,"short name":"solder heel","type":"fixedmeasurement"},"solder side":{"nom":50000,"long name":"Solder fillet (side)","min":null,"max":null,"short name":"solder side","type":"fixedmeasurement"},"courtyard":{"nom":500000,"long name":"Courtyard","min":null,"max":null,"short name":"courtyard","type":"fixedmeasurement"},"SF":{"default":"A","long name":"Packing level","type":"multichoiceparent","short name":"SF","help":"http://support.upverter.com/customer/portal/articles/978783-what-is-a-footprint-packing-level","children":["solder toe","solder heel","solder side","courtyard"]}}}; FOOTPRINT_PARAMETERS_2: {"fp_type":"SOIC_wide","params":{"N":{"nom":4,"long name":"Number of leads","min":null,"max":null,"short name":"N","type":"count"},"A":{"nom":false,"long name":"Height","min":2400000,"max":2900000,"short name":"A","type":"measurement"},"A1":{"nom":false,"long name":"Package clearance","min":50000,"max":200000,"short name":"A1","type":"measurement"},"A2":{"nom":false,"long name":"Package height","min":2200000,"max":2700000,"short name":"A2","type":"measurement"},"D":{"nom":false,"long name":"Package length","min":4500000,"max":4950000,"short name":"D","type":"measurement"},"E":{"nom":false,"long name":"Width w/ leads","min":6400000,"max":7000000,"short name":"E","type":"measurement"},"E1":{"nom":false,"long name":"Package width","min":3600000,"max":4200000,"short name":"E1","type":"measurement"},"B":{"nom":false,"long name":"Lead width","min":430000,"max":840000,"short name":"B","type":"measurement"},"C":{"nom":false,"long name":"Lead thickness","min":150000,"max":410000,"short name":"C","type":"measurement"},"e":{"nom":2540000,"long name":"Lead pitch","min":null,"max":null,"short name":"e","type":"measurement"},"L":{"nom":false,"long name":"Lead foot length","min":480000,"max":1100000,"short name":"L","type":"measurement"},"PHI":{"nom":false,"long name":"Lead foot angle","min":0,"max":8000000,"short name":"PHI","type":"measurement"},"HT":{"default":"No","long name":"Thermal pad","type":"multichoiceparent","short name":"HT","children":[]},"offset x":{"nom":0,"long name":"X Center offset","min":null,"max":null,"short name":"offset x","type":"measurement"},"offset y":{"nom":0,"long name":"Y Center offset","min":null,"max":null,"short name":"offset y","type":"measurement"},"LS":{"default":"Rounded rectangle","long name":"Land shape","type":"multichoice","short name":"LS"},"LS1":{"default":"Rectangle","long name":"Land shape (Pin 1)","type":"multichoice","short name":"LS1"},"solder toe":{"nom":350000,"long name":"Solder fillet (toe)","min":null,"max":null,"short name":"solder toe","type":"fixedmeasurement"},"solder heel":{"nom":350000,"long name":"Solder fillet (heel)","min":null,"max":null,"short name":"solder heel","type":"fixedmeasurement"},"solder side":{"nom":30000,"long name":"Solder fillet (side)","min":null,"max":null,"short name":"solder side","type":"fixedmeasurement"},"courtyard":{"nom":250000,"long name":"Courtyard","min":null,"max":null,"short name":"courtyard","type":"fixedmeasurement"},"SF":{"default":"B","long name":"Packing level","type":"multichoiceparent","short name":"SF","help":"http://support.upverter.com/customer/portal/articles/978783-what-is-a-footprint-packing-level","children":["solder toe","solder heel","solder side","courtyard"]}}}; FOOTPRINT_PARAMETERS_3: {"fp_type":"SOIC_wide","params":{"N":{"nom":4,"long name":"Number of leads","min":null,"max":null,"short name":"N","type":"count"},"A":{"nom":false,"long name":"Height","min":2400000,"max":2900000,"short name":"A","type":"measurement"},"A1":{"nom":false,"long name":"Package clearance","min":50000,"max":200000,"short name":"A1","type":"measurement"},"A2":{"nom":false,"long name":"Package height","min":2200000,"max":2700000,"short name":"A2","type":"measurement"},"D":{"nom":false,"long name":"Package length","min":4500000,"max":4950000,"short name":"D","type":"measurement"},"E":{"nom":false,"long name":"Width w/ leads","min":6400000,"max":7000000,"short name":"E","type":"measurement"},"E1":{"nom":false,"long name":"Package width","min":3600000,"max":4200000,"short name":"E1","type":"measurement"},"B":{"nom":false,"long name":"Lead width","min":430000,"max":840000,"short name":"B","type":"measurement"},"C":{"nom":false,"long name":"Lead thickness","min":150000,"max":410000,"short name":"C","type":"measurement"},"e":{"nom":2540000,"long name":"Lead pitch","min":null,"max":null,"short name":"e","type":"measurement"},"L":{"nom":false,"long name":"Lead foot length","min":480000,"max":1100000,"short name":"L","type":"measurement"},"PHI":{"nom":false,"long name":"Lead foot angle","min":0,"max":8000000,"short name":"PHI","type":"measurement"},"HT":{"default":"No","long name":"Thermal pad","type":"multichoiceparent","short name":"HT","children":[]},"offset x":{"nom":0,"long name":"X Center offset","min":null,"max":null,"short name":"offset x","type":"measurement"},"offset y":{"nom":0,"long name":"Y Center offset","min":null,"max":null,"short name":"offset y","type":"measurement"},"LS":{"default":"Rounded rectangle","long name":"Land shape","type":"multichoice","short name":"LS"},"LS1":{"default":"Rectangle","long name":"Land shape (Pin 1)","type":"multichoice","short name":"LS1"},"solder toe":{"nom":150000,"long name":"Solder fillet (toe)","min":null,"max":null,"short name":"solder toe","type":"fixedmeasurement"},"solder heel":{"nom":250000,"long name":"Solder fillet (heel)","min":null,"max":null,"short name":"solder heel","type":"fixedmeasurement"},"solder side":{"nom":10000,"long name":"Solder fillet (side)","min":null,"max":null,"short name":"solder side","type":"fixedmeasurement"},"courtyard":{"nom":100000,"long name":"Courtyard","min":null,"max":null,"short name":"courtyard","type":"fixedmeasurement"},"SF":{"default":"C","long name":"Packing level","type":"multichoiceparent","short name":"SF","help":"http://support.upverter.com/customer/portal/articles/978783-what-is-a-footprint-packing-level","children":["solder toe","solder heel","solder side","courtyard"]}}}; FOOTPRINT_URL: https://www.onsemi.com/pub/Collateral/751EP.PDF; FOOTPRINT_VARIANT_NAME_0: Recommended_Land_Pattern; FOOTPRINT_VARIANT_NAME_1: IPC_A; FOOTPRINT_VARIANT_NAME_2: IPC_B; FOOTPRINT_VARIANT_NAME_3: IPC_C; HEIGHT: 2.9mm; MFG_PACKAGE_IDENT_DATE: 09/2016; MOUSER_PART_NUMBER: 512-MB10S; MPN: MB10S; PACKAGE: SOIC4; REVERSE_VOLTAGE: 1000V; ROHS: Yes; TEMPERATURE_RANGE_HIGH: +150°C
footprint ON_SEMI_MB10S_3
pins: 1 +, 2 -, 3 1_~, 4 2_~

## MBRS1100T3GON_SEMI_MBRS1100T3G_0_0
designator D?, comment Diode Schottky 100V 1A Surface Mount  (value not drawn)
3DS_PART_NUMBER: 417-00000; GateName_1: G$0; SymbolName_1: MBRS1100T3G; DeviceName: ON_SEMI_MBRS1100T3G_0_0; CENTROID_NOT_SPECIFIED: No; DEVICE_CLASS_L1: Discrete Semiconductors; DEVICE_CLASS_L2: Diodes; DEVICE_CLASS_L3: Schottky Diodes; FORWARD_CURRENT: 2A; LEAD_FREE: yes; MAX_JUNCTION_TEMP: +175°C; MF: ON Semi; MFG_PACKAGE_IDENT: 403A-03; MFG_PACKAGE_IDENT_REV: J; PREFIX: D; STANDOFF_HEIGHT: 0.05mm; TEMPERATURE_RANGE_LOW: -65°C; VERIFICATION_VERSION: 0.0.0.1; LibraryName: 3D_MIG_Controller; DeviceSetName: MBRS1100T3G; Package: SMB; DATASHEET: http://www.onsemi.com/pub/Collateral/MBRS1100T3-D.PDF; DC_BLOCKING_VOLTAGE: 100V; DIGIKEY_DESCRIPTION: DIODE SCHOTTKY 100V 1A SMB; DIGIKEY_PART_NUMBER: MBRS1100T3GOSCT-ND; FOOTPRINT_URL: http://www.onsemi.cn/PowerSolutions/document/403A-03.PDF; FOOTPRINT_VARIANT_NAME_0: Recommended_Land_Pattern; HEIGHT: 2.47mm; MAX_REPETITIVE_REVERSE_VOLTAGE: 100V; MFG_PACKAGE_IDENT_DATE: 07/2012; MOUSER_DESCRIPTION: Schottky Diodes & Rectifiers 1A 100V; MOUSER_PART_NUMBER: 863-MBRS1100T3G; MPN: MBRS1100T3G; PACKAGE: SMB; ROHS: yes; TEMPERATURE_RANGE_HIGH: +175°C; WORKING_REVERSE_VOLTAGE: 100V
footprint SMB
pins: 1 CATHODE, 2 ANODE

## MC14001BDG
designator U?
GateName_1: A; SymbolName_1: MC14001BDG; SOURCELIBRARY: ONSemi_2017-12-12_1; VENDOR: ON Semiconductor; LibraryName: 3D_MIG_Controller; DeviceSetName: MC14001BDG; Package: SOIC-14_NB_ONS; COPYRIGHT: Copyright (C) 2016 Accelerated Designs. All rights reserved; MANUFACTURER_PART_NUMBER: MC14001BDG
footprint SOIC-14_NB_ONS
pins: 1 IN1A (in), 2 IN2A (in), 3 OUTA (out), 4 OUTB (out), 5 IN1B (in), 6 IN2B (in), 7 VSS (power), 8 IN1C (in), 9 IN2C (in), 10 OUTC (out), 11 OUTD (out), 12 IN1D (in), 13 IN2D (in), 14 VDD (power)

## MC14001BDGSOIC-14_NB_ONS-L
designator U?
GateName_1: A; SymbolName_1: MC14001BDG; DeviceName: SOIC-14_NB_ONS-L; SOURCELIBRARY: ONSemi_2017-12-12_1; VENDOR: ON Semiconductor; LibraryName: 3D_MIG_Controller; DeviceSetName: MC14001BDG; Package: SOIC-14_NB_ONS-L; COPYRIGHT: Copyright (C) 2016 Accelerated Designs. All rights reserved; MANUFACTURER_PART_NUMBER: MC14001BDG
footprint SOIC-14_NB_ONS-L
pins: 1 IN1A (in), 2 IN2A (in), 3 OUTA (out), 4 OUTB (out), 5 IN1B (in), 6 IN2B (in), 7 VSS (power), 8 IN1C (in), 9 IN2C (in), 10 OUTC (out), 11 OUTD (out), 12 IN1D (in), 13 IN2D (in), 14 VDD (power)

## MC14001BDGSOIC-14_NB_ONS-M
designator U?
GateName_1: A; SymbolName_1: MC14001BDG; DeviceName: SOIC-14_NB_ONS-M; SOURCELIBRARY: ONSemi_2017-12-12_1; VENDOR: ON Semiconductor; LibraryName: 3D_MIG_Controller; DeviceSetName: MC14001BDG; Package: SOIC-14_NB_ONS-M; COPYRIGHT: Copyright (C) 2016 Accelerated Designs. All rights reserved; MANUFACTURER_PART_NUMBER: MC14001BDG
footprint SOIC-14_NB_ONS-M
pins: 1 IN1A (in), 2 IN2A (in), 3 OUTA (out), 4 OUTB (out), 5 IN1B (in), 6 IN2B (in), 7 VSS (power), 8 IN1C (in), 9 IN2C (in), 10 OUTC (out), 11 OUTD (out), 12 IN1D (in), 13 IN2D (in), 14 VDD (power)

## MC14093BDG
designator U?
GateName_1: A; SymbolName_1: MC14093BDG; BUILT_BY: EMA_UL_Team; SOURCELIBRARY: ON_Semi_2010-01-01; VENDOR: ON Semiconductor; LibraryName: 3D_MIG_Controller; DeviceSetName: MC14093BDG; Package: PDIP-14_ONS; MANUFACTURER_PART_NUMBER: MC14093BDG
footprint PDIP-14_ONS
pins: 1 IN1A (in), 2 IN2A (in), 3 OUTA (out), 4 OUTB (out), 5 IN1B (in), 6 IN2B (in), 7 VSS (power), 8 IN1C (in), 9 IN2C (in), 10 OUTC (out), 11 OUTD (out), 12 IN1D (in), 13 IN2D (in), 14 VDD (power)

## MCP6001UT
designator IC?, comment Opamp, 1MHz, SOT23-5, One Channel, Rail-Rail
GateName_1: G$1; SymbolName_1: MCP6001U_A; DeviceSetName: MCP6001UT; LibraryName: 3D_MIG_Controller; Package: SOT-23-5
footprint SOT-23-5
pins: 1 NULL@1, 2 NULL@2, 3 NULL@3, 4 NULL@4, 5 NULL@5

## METER_BASE
designator ?
GateName_1: G$1; SymbolName_1: METER_BASE; LibraryName: 3D_MIG_Controller; DeviceSetName: METER_BASE; Package: METER_BASE
footprint METER_BASE
pins: P1 GND (io), P2 ZX0 (io), P3 ZX1 (io), P4 ZX2 (io), P5 CF1 (io), P6 CF2 (io), P7 CF3 (io), P8 CF4 (io), P9 WARNOUT (io), P10 IRQ0 (io), P11 IRQ1 (io), P12 PM0 (io), P13 PM1 (io), P14 DMA (io), P15 SDI (io), P16 CS (io), P17 SCLK (io), P18 SDO (io), P19 VDD (io), P20 RST (io), P21 GND1 (io), P22 VAC_240 (io), P23 GND2 (io)

## MICROMOD-2222
designator J?, comment MicroMod Connector  Description: A card edge connector and mating PCB connector to allow various MicroMod Processor Boards to be coupled with various carrier boards of different capabilities. Based on the M.2 standard.
GateName_1: J1; DeviceName: -2222; SymbolName_1: MICROMOD; LibraryName: 3D_MIG_Controller; DeviceSetName: MICROMOD; Package: M.2-CARD-E-22
footprint M.2-CARD-E-22
pins: 1,7,33,36,39,45,75,GND1,GND2,GND3 GND (io), 2,74 3.3V (io), 3 USB_D+ (io), 4 3.3V_EN (io), 5 USB_D- (io), 6 !RESET! (io), 8 G11 (io), 9 USB_VIN (io), 10 D0 (io), 11 !BOOT! (io), 12 I2C_SDA (io), 13 RTS1 (io), 14 I2C_SCL (io), 15 CTS1 (io), 16 I2C_!INT! (io), 17 TX1 (io), 18 D1/CAM_TRIG (io), 19 RX1 (io), 20 RX2 (io), 21 SWDCK (io), 22 TX2 (io), 23 SWDIO (io), 32 PWM0 (io), 34 A0 (io), 35 USBHOST_D+ (io), 37 USBHOST_D- (io), 38 A1 (io), 40 G0/BUS0 (io), 41 CAN-RX (io), 42 G1/BUS1 (io), 43 CAN-TX (io), 44 G2/BUS2 (io), 46 G3/BUS3 (io), 47 PWM1 (io), 48 G4/BUS4 (io), 49 BATT_VIN/3 (io), 50 AUD_BCLK (io), 51 I2C_SDA1 (io), 52 AUD_LRCLK (io), 53 I2C_SCL1 (io), 54 AUD_IN/CAM_PCLK (io), 55 SPI_!CS! (io), 56 AUD_OUT/CAM_MCLK (io), 57 SPI_SCK (io), 58 AUD_MCLK (io), 59 SPI_SDO (io), 60 SPI_SCK1/SDIO_CLK (io), 61 SPI_SDI (io), 62 SPI_SDO1/SDIO_CMD (io), 63 G10/ADC_D+/CAM_VSYNC (io), 64 SPI_SDI1/SDIO_DATA0 (io), 65 G9/ADC_D-/CAM_HSYNC (io), 66 SDIO_DATA1 (io), 67 G8 (io), 68 SDIO_DATA2 (io), 69 G7/BUS7 (io), 70 SPI_!CS1!/SDIO_DATA3 (io), 71 G6/BUS6 (io), 72 RTC_3V (io), 73 G5/BUS5 (io)

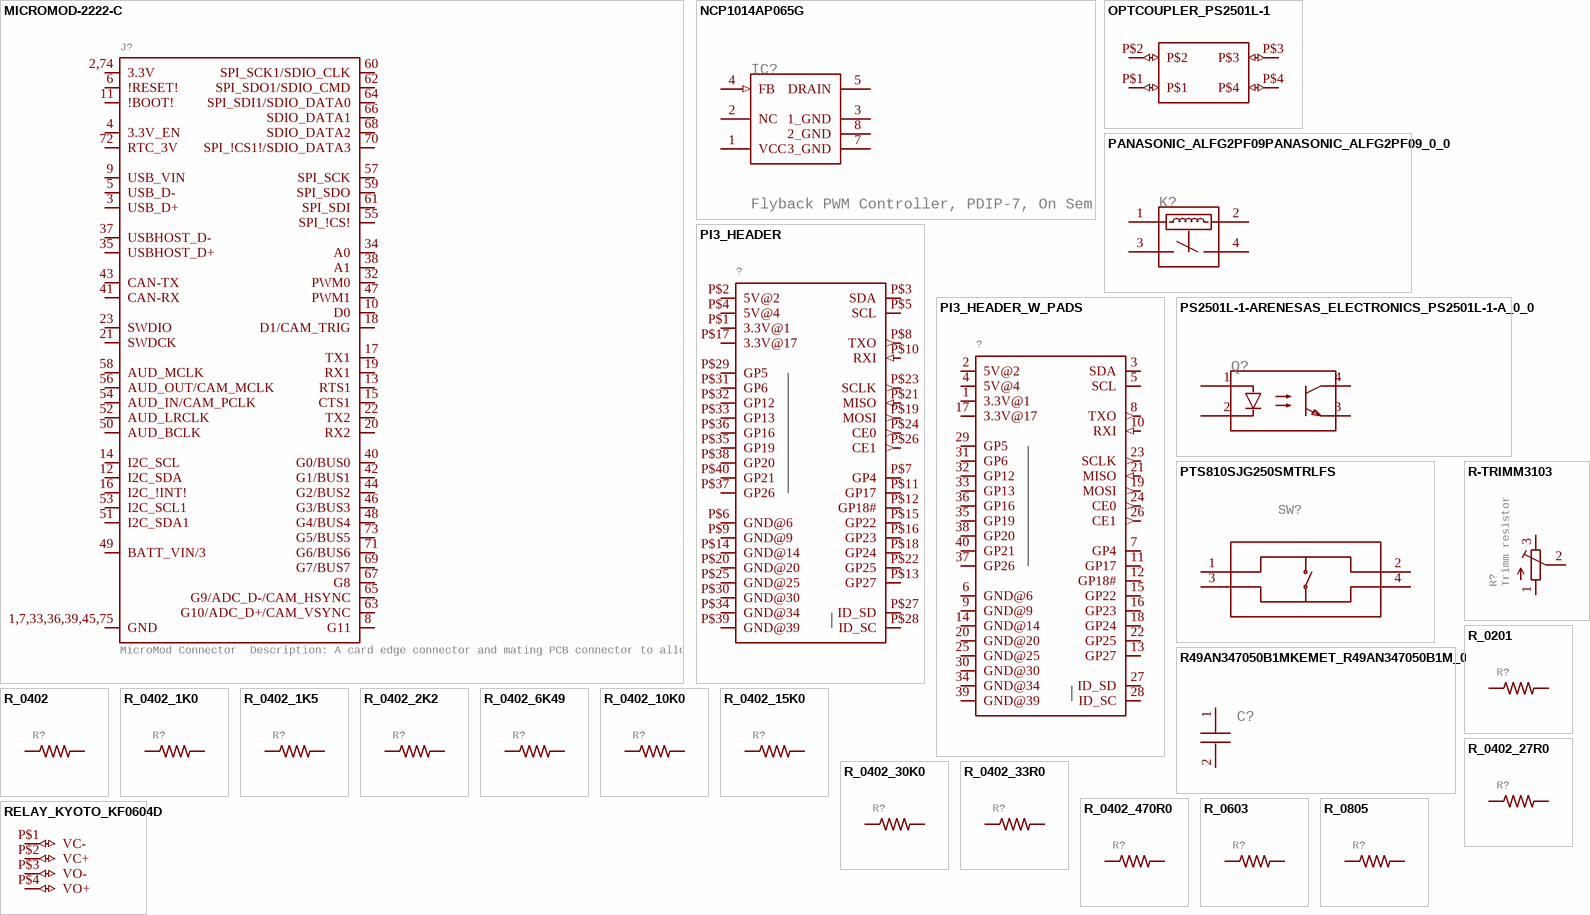
[diagram p15: symbols MICROMOD-2222-C to RELAY_KYOTO_KF0604D]

## MICROMOD-2222-C
designator J?, comment MicroMod Connector  Description: A card edge connector and mating PCB connector to allow various MicroMod Processor Boards to be coupled with various carrier boards of different capabilities. Based on the M.2 standard.
GateName_1: J1; DeviceName: -2222-C; PROD_ID: CONN-14877; SymbolName_1: MICROMOD; LibraryName: 3D_MIG_Controller; DeviceSetName: MICROMOD; Package: M.2-CONNECTOR-E
footprint M.2-CONNECTOR-E
pins: 1,7,33,36,39,45,75 GND (io), 2,74 3.3V (io), 3 USB_D+ (io), 4 3.3V_EN (io), 5 USB_D- (io), 6 !RESET! (io), 8 G11 (io), 9 USB_VIN (io), 10 D0 (io), 11 !BOOT! (io), 12 I2C_SDA (io), 13 RTS1 (io), 14 I2C_SCL (io), 15 CTS1 (io), 16 I2C_!INT! (io), 17 TX1 (io), 18 D1/CAM_TRIG (io), 19 RX1 (io), 20 RX2 (io), 21 SWDCK (io), 22 TX2 (io), 23 SWDIO (io), 32 PWM0 (io), 34 A0 (io), 35 USBHOST_D+ (io), 37 USBHOST_D- (io), 38 A1 (io), 40 G0/BUS0 (io), 41 CAN-RX (io), 42 G1/BUS1 (io), 43 CAN-TX (io), 44 G2/BUS2 (io), 46 G3/BUS3 (io), 47 PWM1 (io), 48 G4/BUS4 (io), 49 BATT_VIN/3 (io), 50 AUD_BCLK (io), 51 I2C_SDA1 (io), 52 AUD_LRCLK (io), 53 I2C_SCL1 (io), 54 AUD_IN/CAM_PCLK (io), 55 SPI_!CS! (io), 56 AUD_OUT/CAM_MCLK (io), 57 SPI_SCK (io), 58 AUD_MCLK (io), 59 SPI_SDO (io), 60 SPI_SCK1/SDIO_CLK (io), 61 SPI_SDI (io), 62 SPI_SDO1/SDIO_CMD (io), 63 G10/ADC_D+/CAM_VSYNC (io), 64 SPI_SDI1/SDIO_DATA0 (io), 65 G9/ADC_D-/CAM_HSYNC (io), 66 SDIO_DATA1 (io), 67 G8 (io), 68 SDIO_DATA2 (io), 69 G7/BUS7 (io), 70 SPI_!CS1!/SDIO_DATA3 (io), 71 G6/BUS6 (io), 72 RTC_3V (io), 73 G5/BUS5 (io)

## NCP1014AP065G
designator IC?, comment Flyback PWM Controller, PDIP-7, On Semi
GateName_1: G$1; SymbolName_1: NCP1014AP065G; LibraryName: 3D_MIG_Controller; DeviceSetName: NCP1014AP065G; Package: PDIP-7
footprint PDIP-7
pins: 1 VCC (power), 2 NC, 3 1_GND (power), 4 FB (in), 5 DRAIN (power), 7 3_GND (power), 8 2_GND (power)

## OPTCOUPLER_PS2501L-1
designator ?
GateName_1: G$1; SymbolName_1: OPTOCOUPLER_PS2501L-1; DeviceSetName: OPTCOUPLER_PS2501L-1; LibraryName: 3D_MIG_Controller; Package: OPTOCOUPLER_PS2501L-1
footprint OPTOCOUPLER_PS2501L-1
pins: P$1 (io), P$2 (io), P$3 (io), P$4 (io)

## PANASONIC_ALFG2PF09PANASONIC_ALFG2PF09_0_0
designator K?, comment Relay 31A, 9V, SPST-NO (1 Form A) Panasonic  (value not drawn)
MPN: ALFG2PF09; GateName_1: G$0; SymbolName_1: PANASONIC_ALFG2PF09_0_0; DeviceSetName: PANASONIC_ALFG2PF09; CIIVA_IDS: 1180488; COMPONENT_LINK_1_DESCRIPTION: Manufacturer URL; COMPONENT_LINK_3_DESCRIPTION: Package Specification; ELECTRICAL_LIFE: 3x10^4; IMPORT_TS: 1521844845; MAX_SWITCHING_CURRENT: 31 A AC; MAX_SWITCHING_VOLTAGE: 250 V AC; MECHANICAL_LIFEMINOPERATION: 1x10^6; MOUNTING_TECHNOLOGY: Through Hole; NOMINAL_OPERATING_POWER: 1400 mW; PACKAGE_DESCRIPTION: 4-Pin Through Hole Terminal Package, Body 30.1 x 15.7 mm; PACKAGE_VERSION: ASCTB196E, 02/2014; PACKING: Carton, Case; PB__FREE: true; PREFIX: K; DeviceName: PANASONIC_ALFG2PF09_0_0; LibraryName: 3D_MIG_Controller; Package: PANASONIC_ALFG2PF09_0; COIL_VOLTAGE: 9 V; COMPONENT_LINK_1_URL: http://www3.panasonic.biz/ac/ae/index.jsp; COMPONENT_LINK_3_URL: http://www3.panasonic.biz/ac/e_download/control/relay/power/catalog/mech_eng_lfg.pdf?f_cd=300272; DATASHEET: http://www3.panasonic.biz/ac/e_download/control/relay/power/catalog/mech_eng_lfg.pdf?f_cd=300272; DATASHEET_VERSION: 201402-T; FOOTPRINT_VARIANT_NAME_0: Manufacturer Recommended; IMPORTED: yes; IMPORTED_FROM: vault; MF: Panasonic; PACKAGE: LF-G-4-3010x1570x2330; RELEASE_DATE: 1421744840; SERIES: LF-G Relays; VAULT_GUID: 49A0321D-630D-49EF-B2C8-0308632C255A; VAULT_REVISION: 10808CD6-6A28-402B-B998-FC10EF34438A
footprint PANASONIC_ALFG2PF09_0
pins: 1, 2, 3 NO, 4 COM

## PI3_HEADER
designator ?
GateName_1: G$1; SymbolName_1: PI3_HEADER; LibraryName: 3D_MIG_Controller; DeviceSetName: PI3_HEADER; Package: HEADER_2_X_20_.1_INCH
footprint HEADER_2_X_20_.1_INCH
pins: P$1 3.3V@1 (power), P$2 5V@2 (power), P$3 SDA (io), P$4 5V@4 (power), P$5 SCL (io), P$6 GND@6 (power), P$7 GP4 (io), P$8 TXO (out), P$9 GND@9 (power), P$10 RXI (in), P$11 GP17 (io), P$12 GP18# (io), P$13 GP27 (io), P$14 GND@14 (power), P$15 GP22 (io), P$16 GP23 (io), P$17 3.3V@17 (power), P$18 GP24 (io), P$19 MOSI (out), P$20 GND@20 (power), P$21 MISO (in), P$22 GP25 (io), P$23 SCLK (out), P$24 CE0 (out), P$25 GND@25 (power), P$26 CE1 (out), P$27 ID_SD (io), P$28 ID_SC (io), P$29 GP5 (io), P$30 GND@30 (power), P$31 GP6 (io), P$32 GP12 (io), P$33 GP13 (io), P$34 GND@34 (power), P$35 GP19 (io), P$36 GP16 (io), P$37 GP26 (io), P$38 GP20 (io), P$39 GND@39 (power), P$40 GP21 (io)

## PI3_HEADER_W_PADS
designator ?
GateName_1: G$1; SymbolName_1: PI3_HEADER; DeviceSetName: PI3_HEADER_W_PADS; LibraryName: 3D_MIG_Controller; Package: PI3_HEADER_W_PADS
footprint PI3_HEADER_W_PADS
pins: 1 3.3V@1 (power), 2 5V@2 (power), 3 SDA (io), 4 5V@4 (power), 5 SCL (io), 6 GND@6 (power), 7 GP4 (io), 8 TXO (out), 9 GND@9 (power), 10 RXI (in), 11 GP17 (io), 12 GP18# (io), 13 GP27 (io), 14 GND@14 (power), 15 GP22 (io), 16 GP23 (io), 17 3.3V@17 (power), 18 GP24 (io), 19 MOSI (out), 20 GND@20 (power), 21 MISO (in), 22 GP25 (io), 23 SCLK (out), 24 CE0 (out), 25 GND@25 (power), 26 CE1 (out), 27 ID_SD (io), 28 ID_SC (io), 29 GP5 (io), 30 GND@30 (power), 31 GP6 (io), 32 GP12 (io), 33 GP13 (io), 34 GND@34 (power), 35 GP19 (io), 36 GP16 (io), 37 GP26 (io), 38 GP20 (io), 39 GND@39 (power), 40 GP21 (io)